# EAGLE library part CSD18513Q5A (library CSD18513Q5A)
40V, N ch NexFET MOSFET, single SON5x6, 3.4mOhm Source: Datasheet <http://www.ti.com/lit/gpn/csd18513q5a>
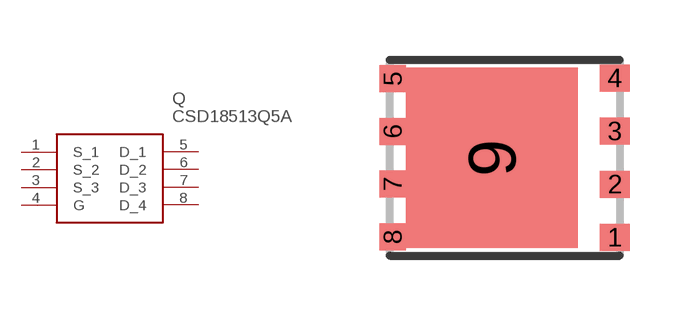
[diagram p0: symbol with the pads of Q5A_VSON-FET; footprint Q5A_VSON-FET]

Designator prefix Q

## CSD18513Q5A (Arrow_Part_Number: CSD18513Q5A; Arrow_Price-Stock: https://www.arrow.com/en/products/csd18513q5a/texas-instruments?region=nac; Description: 40V, N ch NexFET MOSFET, single SON5x6, 3.4mOhm; Height: mm; Manufacturer_Name: Texas Instruments; Manufacturer_Part_Number: CSD18513Q5A; Mouser_Part_Number: 595-CSD18513Q5A; Mouser_Price-Stock: https://www.mouser.co.uk/ProductDetail/Texas-Instruments/CSD18513Q5A?qs=34RfhUjJmKfal%252BAkBmQt6Q%3D%3D)  [Q5A_VSON-FET]
1  S_1
2  S_2
3  S_3
4  G
5  D_1
6  D_2
7  D_3
8  D_4

## Footprint Q5A_VSON-FET (pad centres in mm)
Q5A VSON-FET
smd 0.75 x 0.675: 1 2.752,-1.995; 2 2.752,-0.665; 3 2.752,0.665; 4 2.752,1.995
smd 0.655 x 0.675: 5 -2.8,1.98; 6 -2.8,0.66; 7 -2.8,-0.66; 8 -2.8,-1.98
smd 4.295 x 4.51: 9 -0.325,0